# EAGLE library part MODULAR_ROBOTICS_TPS62160 (library micro_mirror3)
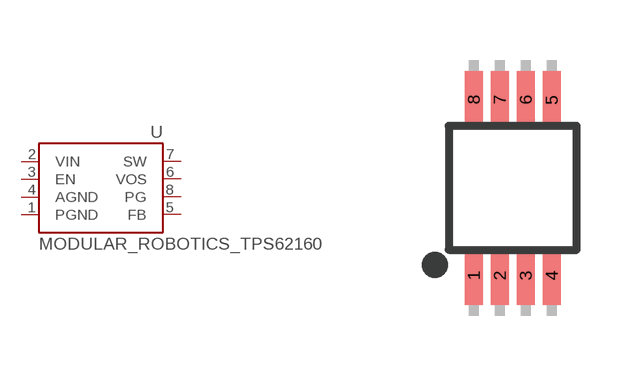
[diagram p6: symbol with the pads of MODULAR_ROBOTICS_TSSOP8; footprint MODULAR_ROBOTICS_TSSOP8]

Designator prefix -

## MODULAR_ROBOTICS_TPS62160  [MODULAR_ROBOTICS_TSSOP8]
1  PGND
2  VIN
3  EN
4  AGND
5  FB
6  VOS
7  SW
8  PG

## Footprint MODULAR_ROBOTICS_TSSOP8 (pad centres in mm)
Thin Shrink Small Outline Plastic 8 3 x 4.4 mm
smd 0.45 x 1.45: 1 -0.975,-2.2; 2 -0.325,-2.2; 3 0.325,-2.2; 4 0.975,-2.2; 5 0.975,2.2; 6 0.325,2.2; 7 -0.325,2.2; 8 -0.975,2.2